# Altium integrated library TI Power Management Step-Down Regulator.IntLib: 531 symbols (part 26 of 32)
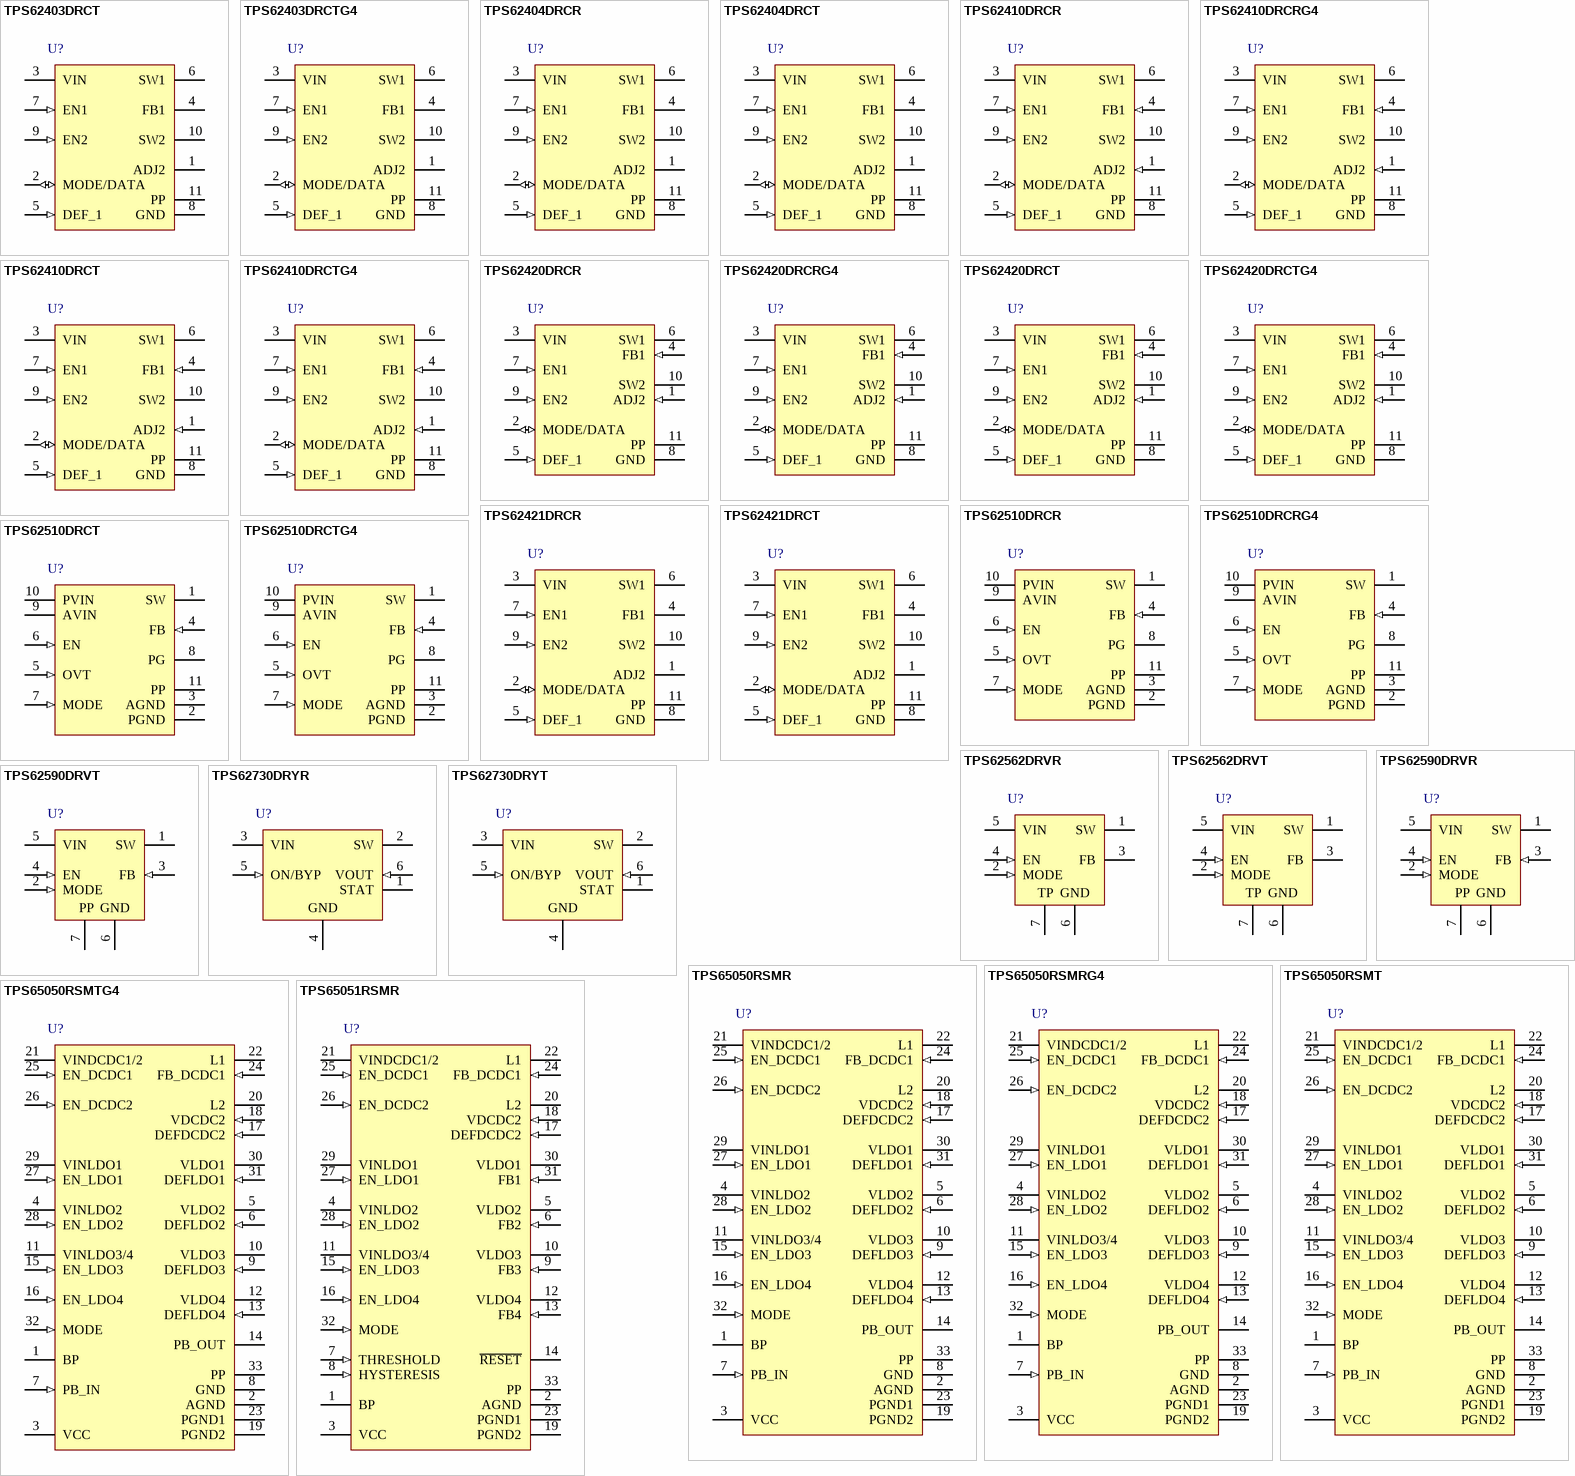
[diagram p43: symbols TPS62403DRCT to TPS65051RSMR]

## TPS62410DRCTG4
designator U?
Buck Step Down Regulator with 2.5 to 6 V Input and 0.6 to 6 V Output, -40 to 85 degC, 10-Pin SON (DRC), Green (RoHS & no Sb/Br); PartNumber: TPS62410DRCTG4; Manufacturer: Texas Instruments; Duty Cycle(Max)(%): 100; Dynamic Voltage Scaling: TRUE; Iout(Max)(A): 0.8; Iq(Typ)(mA): 0.032; Rating: Catalog; Regulated Outputs(#): 2; SubFamily: Step-Down Regulator; Switch Current Limit(Typ)(A): 1; Vin(Max)(V): 6; Vin(Min)(V): 2.5; Vout(Min)(V): 0.6; DatasheetVersion: SLVS737; PackageVersion: revL, Sep-2011; PackageReference: DRC10-2400X1650TP; PackageDescription: 10-Pin Plastic Small Outline No-Lead, 3 x 3 x 1 mm Body, 0.5 mm Pitch, Exposed Pad; Supplier 1: Digi-Key; Supplier Part Number 1: TPS62410DRCTG4-ND; Supplier 2: Newark; Supplier Part Number 2: 34M0196; Supplier 3: Newark; Supplier Part Number 3: 59M7216; Supplier 4: Mouser; Supplier Part Number 4: 595-TPS62410DRCTG4; Eco-Plan: Green (RoHS & no Sb/Br); Iout2(Max)(A): 0.8; Synchronous Rectification: TRUE; Topology: Buck; Vout(Max)(V): 6; Vout2(Max)(V): 6; Vout2(Min)(V): 0.6; Mounting Technology: Surface Mount; ComponentLink1Description: Datasheet; ComponentLink1URL: http://www.ti.com/general/docs/lit/getliterature.tsp?genericPartNumber=TPS62410&fileType=pdf; ComponentLink2Description: URL Link1; ComponentLink2URL: Samples URL:http://www.ti.com/product/tps54611#samples
footprint DRC10-2400X1650TP (SON, 10-Leads, Body 3x3mm, Pitch 0.5mm, Thermal Pad 2.4x1.65mm, TI Recommended)
pins: 1 ADJ2 (in) "Input to adjust output voltage of converter 2. In adjustable version (TPS62410) connect a external resistor divider between VOUT2, this pin and GND to set output voltage between 0.6V and VIN. If EasyScale Interface is used (See Datasheet)", 2 MODE/DATA (io) "This Pin has 2 functions: 1. Operation Mode selection: With low level, Power Save Mode is enabled where the device operates in PFM mode at light loads and enters automatically PWM mode at heavy loads. Pulling this PIN to (See Datasheet)", 3 VIN (power) "Supply voltage, connect to VBAT, 2.5V to 6V", 4 FB1 (in) "Direct feedback voltage sense input of converter 1, connect directly to Vout 1. An internal feed forward capacitor is connected between this pin and the error amplifier. In case of fixed output voltage versions or when the (See Datasheet)", 5 DEF_1 (in) "This pin defines the output voltage of converter 1. The pin acts in TPS62410 as an analog input for output voltage setting via external resistors. In fixed default output voltage versions this pin is a digital input to (See Datasheet)", 6 SW1 (power) "Switch Pin of Converter1. Connected to Inductor 1", 7 EN1 (in) "Enable Input for Converter1, active high", 8 GND (power) "GND for both converters, this pin should be connected with the PowerPAD", 9 EN2 (in) "Enable Input for Converter 2, active high", 10 SW2 (power) "Switch Pin of Converter 2. Connect to Inductor.", 11 PP (power) "Connect to GND"

## TPS62420DRCR
designator U?
Buck Adjustable Regulator with 2.5 to 6 V Input and 0.6 to 6 V Output, -40 to 85 degC, 10-Pin SON (DRC), Green (RoHS & no Sb/Br); PartNumber: TPS62420DRCR; Manufacturer: Texas Instruments; Duty Cycle(Max)(%): 100; Dynamic Voltage Scaling: TRUE; Iout(Max)(A): 0.6; Iout2(Max)(A): 1; Iq(Typ)(mA): 0.032; Rating: Catalog; Regulated Outputs(#): 2; SubFamily: Step-Down Regulator; Vin(Max)(V): 6; Vin(Min)(V): 2.5; DatasheetVersion: SLVS676C; PackageVersion: revL, Sep-2011; PackageReference: DRC10-2400X1650TP; PackageDescription: 10-Pin Plastic Small Outline No-Lead, 3 x 3 x 1 mm Body, 0.5 mm Pitch, Exposed Pad; Supplier 1: Digi-Key; Supplier Part Number 1: 296-25650-2-ND; Supplier 2: Digi-Key; Supplier Part Number 2: 296-25650-1-ND; Supplier 3: Digi-Key; Supplier Part Number 3: 296-25650-6-ND; Supplier 4: Newark; Supplier Part Number 4: 10M0641; Supplier 5: Mouser; Supplier Part Number 5: 595-TPS62420DRCR; Eco-Plan: Green (RoHS & no Sb/Br); Switch Current Limit(Typ)(A): 1; Synchronous Rectification: TRUE; Topology: Buck; Vout(Max)(V): 6; Vout(Min)(V): 0.6; Vout2(Max)(V): 6; Vout2(Min)(V): 0.6; Mounting Technology: Surface Mount; ComponentLink1Description: Datasheet; ComponentLink1URL: http://www.ti.com/general/docs/lit/getliterature.tsp?genericPartNumber=TPS62420&fileType=pdf; ComponentLink2Description: URL Link1; ComponentLink2URL: Samples URL:http://www.ti.com/product/tps62420#samples
footprint DRC10-2400X1650TP (SON, 10-Leads, Body 3x3mm, Pitch 0.5mm, Thermal Pad 2.4x1.65mm, TI Recommended)
pins: 1 ADJ2 (in) "Input to adjust output voltage of converter 2. In adjustable version (TPS62420) connect a external resistor divider between VOUT2, this pin and GND to set output voltage between 0.6V and VIN. If EasyScale Interface is used (See Datasheet)", 2 MODE/DATA (io) "This Pin has 2 functions: 1. Operation Mode selection: With low level, Power Save Mode is enabled where the device operates in PFM mode at light loads and enters automatically PWM mode at heavy loads. Pulling this PIN to (See Datasheet)", 3 VIN (power) "Supply voltage, connect to VBAT, 2.5V to 6V.", 4 FB1 (in) "Direct feedback voltage sense input of converter 1, connect directly to Vout 1. An internal feed forward capacitor is connected between this pin and the error amplifier. In case of fixed output voltage versions or when the (See Datasheet)", 5 DEF_1 (in) "This pin defines the output voltage of converter 1. The pin acts in TPS62420 as an analog input for output voltage setting via external resistors. In fixed default output voltage versions this pin is a digital input to (See Datasheet)", 6 SW1 (power) "Switch Pin of Converter1. Connected to Inductor.", 7 EN1 (in) "Enable Input for Converter1, active high.", 8 GND (power) "GND for both converters, this pin should be connected with the PowerPAD.", 9 EN2 (in) "Enable Input for Converter 2, active high.", 10 SW2 (power) "Switch Pin of Converter 2. Connected to Inductor.", 11 PP (power) "Connect to GND"

## TPS62420DRCRG4
designator U?
Buck Adjustable Regulator with 2.5 to 6 V Input and 0.6 to 6 V Output, -40 to 85 degC, 10-Pin SON (DRC), Green (RoHS & no Sb/Br); PartNumber: TPS62420DRCRG4; Manufacturer: Texas Instruments; Duty Cycle(Max)(%): 100; Dynamic Voltage Scaling: TRUE; Iout(Max)(A): 0.6; Iout2(Max)(A): 1; Iq(Typ)(mA): 0.032; Rating: Catalog; Regulated Outputs(#): 2; SubFamily: Step-Down Regulator; Vin(Max)(V): 6; Vin(Min)(V): 2.5; DatasheetVersion: SLVS676C; PackageVersion: revL, Sep-2011; PackageReference: DRC10-2400X1650TP; PackageDescription: 10-Pin Plastic Small Outline No-Lead, 3 x 3 x 1 mm Body, 0.5 mm Pitch, Exposed Pad; Supplier 1: Digi-Key; Supplier Part Number 1: TPS62420DRCRG4-ND; Supplier 2: Newark; Supplier Part Number 2: 14M2504; Supplier 3: Mouser; Supplier Part Number 3: 595-TPS62420DRCRG4; Eco-Plan: Green (RoHS & no Sb/Br); Switch Current Limit(Typ)(A): 1; Synchronous Rectification: TRUE; Topology: Buck; Vout(Max)(V): 6; Vout(Min)(V): 0.6; Vout2(Max)(V): 6; Vout2(Min)(V): 0.6; Mounting Technology: Surface Mount; ComponentLink1Description: Datasheet; ComponentLink1URL: http://www.ti.com/general/docs/lit/getliterature.tsp?genericPartNumber=TPS62420&fileType=pdf; ComponentLink2Description: URL Link1; ComponentLink2URL: Samples URL:http://www.ti.com/product/tps62420#samples
footprint DRC10-2400X1650TP (SON, 10-Leads, Body 3x3mm, Pitch 0.5mm, Thermal Pad 2.4x1.65mm, TI Recommended)
pins: 1 ADJ2 (in) "Input to adjust output voltage of converter 2. In adjustable version (TPS62420) connect a external resistor divider between VOUT2, this pin and GND to set output voltage between 0.6V and VIN. If EasyScale Interface is used (See Datasheet)", 2 MODE/DATA (io) "This Pin has 2 functions: 1. Operation Mode selection: With low level, Power Save Mode is enabled where the device operates in PFM mode at light loads and enters automatically PWM mode at heavy loads. Pulling this PIN to (See Datasheet)", 3 VIN (power) "Supply voltage, connect to VBAT, 2.5V to 6V.", 4 FB1 (in) "Direct feedback voltage sense input of converter 1, connect directly to Vout 1. An internal feed forward capacitor is connected between this pin and the error amplifier. In case of fixed output voltage versions or when the (See Datasheet)", 5 DEF_1 (in) "This pin defines the output voltage of converter 1. The pin acts in TPS62420 as an analog input for output voltage setting via external resistors. In fixed default output voltage versions this pin is a digital input to (See Datasheet)", 6 SW1 (power) "Switch Pin of Converter1. Connected to Inductor.", 7 EN1 (in) "Enable Input for Converter1, active high.", 8 GND (power) "GND for both converters, this pin should be connected with the PowerPAD.", 9 EN2 (in) "Enable Input for Converter 2, active high.", 10 SW2 (power) "Switch Pin of Converter 2. Connected to Inductor.", 11 PP (power) "Connect to GND"

## TPS62420DRCT
designator U?
Buck Adjustable Regulator with 2.5 to 6 V Input and 0.6 to 6 V Output, -40 to 85 degC, 10-Pin SON (DRC), Green (RoHS & no Sb/Br); PartNumber: TPS62420DRCT; Manufacturer: Texas Instruments; Duty Cycle(Max)(%): 100; Dynamic Voltage Scaling: TRUE; Iout(Max)(A): 0.6; Iout2(Max)(A): 1; Iq(Typ)(mA): 0.032; Rating: Catalog; Regulated Outputs(#): 2; SubFamily: Step-Down Regulator; Vin(Max)(V): 6; Vin(Min)(V): 2.5; DatasheetVersion: SLVS676C; PackageVersion: revL, Sep-2011; PackageReference: DRC10-2400X1650TP; PackageDescription: 10-Pin Plastic Small Outline No-Lead, 3 x 3 x 1 mm Body, 0.5 mm Pitch, Exposed Pad; Supplier 1: Digi-Key; Supplier Part Number 1: 296-20692-2-ND; Supplier 2: Digi-Key; Supplier Part Number 2: 296-20692-1-ND; Supplier 3: Digi-Key; Supplier Part Number 3: 296-20692-6-ND; Supplier 4: Farnell; Supplier Part Number 4: 1755475RL; Supplier 5: Farnell; Supplier Part Number 5: 1755475; Supplier 6: Newark; Supplier Part Number 6: 10M0642; Supplier 7: Mouser; Supplier Part Number 7: 595-TPS62420DRCT; Eco-Plan: Green (RoHS & no Sb/Br); Switch Current Limit(Typ)(A): 1; Synchronous Rectification: TRUE; Topology: Buck; Vout(Max)(V): 6; Vout(Min)(V): 0.6; Vout2(Max)(V): 6; Vout2(Min)(V): 0.6; Mounting Technology: Surface Mount; ComponentLink1Description: Datasheet; ComponentLink1URL: http://www.ti.com/general/docs/lit/getliterature.tsp?genericPartNumber=TPS62420&fileType=pdf; ComponentLink2Description: URL Link1; ComponentLink2URL: Samples URL:http://www.ti.com/product/tps62420#samples
footprint DRC10-2400X1650TP (SON, 10-Leads, Body 3x3mm, Pitch 0.5mm, Thermal Pad 2.4x1.65mm, TI Recommended)
pins: 1 ADJ2 (in) "Input to adjust output voltage of converter 2. In adjustable version (TPS62420) connect a external resistor divider between VOUT2, this pin and GND to set output voltage between 0.6V and VIN. If EasyScale Interface is used (See Datasheet)", 2 MODE/DATA (io) "This Pin has 2 functions: 1. Operation Mode selection: With low level, Power Save Mode is enabled where the device operates in PFM mode at light loads and enters automatically PWM mode at heavy loads. Pulling this PIN to (See Datasheet)", 3 VIN (power) "Supply voltage, connect to VBAT, 2.5V to 6V.", 4 FB1 (in) "Direct feedback voltage sense input of converter 1, connect directly to Vout 1. An internal feed forward capacitor is connected between this pin and the error amplifier. In case of fixed output voltage versions or when the (See Datasheet)", 5 DEF_1 (in) "This pin defines the output voltage of converter 1. The pin acts in TPS62420 as an analog input for output voltage setting via external resistors. In fixed default output voltage versions this pin is a digital input to (See Datasheet)", 6 SW1 (power) "Switch Pin of Converter1. Connected to Inductor.", 7 EN1 (in) "Enable Input for Converter1, active high.", 8 GND (power) "GND for both converters, this pin should be connected with the PowerPAD.", 9 EN2 (in) "Enable Input for Converter 2, active high.", 10 SW2 (power) "Switch Pin of Converter 2. Connected to Inductor.", 11 PP (power) "Connect to GND"

## TPS62420DRCTG4
designator U?
Buck Adjustable Regulator with 2.5 to 6 V Input and 0.6 to 6 V Output, -40 to 85 degC, 10-Pin SON (DRC), Green (RoHS & no Sb/Br); PartNumber: TPS62420DRCTG4; Manufacturer: Texas Instruments; Duty Cycle(Max)(%): 100; Dynamic Voltage Scaling: TRUE; Iout(Max)(A): 0.6; Iout2(Max)(A): 1; Iq(Typ)(mA): 0.032; Rating: Catalog; Regulated Outputs(#): 2; SubFamily: Step-Down Regulator; Vin(Max)(V): 6; Vin(Min)(V): 2.5; DatasheetVersion: SLVS676C; PackageVersion: revL, Sep-2011; PackageReference: DRC10-2400X1650TP; PackageDescription: 10-Pin Plastic Small Outline No-Lead, 3 x 3 x 1 mm Body, 0.5 mm Pitch, Exposed Pad; Supplier 1: Digi-Key; Supplier Part Number 1: TPS62420DRCTG4-ND; Supplier 2: Newark; Supplier Part Number 2: 14M2505; Supplier 3: Mouser; Supplier Part Number 3: 595-TPS62420DRCTG4; Eco-Plan: Green (RoHS & no Sb/Br); Switch Current Limit(Typ)(A): 1; Synchronous Rectification: TRUE; Topology: Buck; Vout(Max)(V): 6; Vout(Min)(V): 0.6; Vout2(Max)(V): 6; Vout2(Min)(V): 0.6; Mounting Technology: Surface Mount; ComponentLink1Description: Datasheet; ComponentLink1URL: http://www.ti.com/general/docs/lit/getliterature.tsp?genericPartNumber=TPS62420&fileType=pdf; ComponentLink2Description: URL Link1; ComponentLink2URL: Samples URL:http://www.ti.com/product/tps54611#samples
footprint DRC10-2400X1650TP (SON, 10-Leads, Body 3x3mm, Pitch 0.5mm, Thermal Pad 2.4x1.65mm, TI Recommended)
pins: 1 ADJ2 (in) "Input to adjust output voltage of converter 2. In adjustable version (TPS62420) connect a external resistor divider between VOUT2, this pin and GND to set output voltage between 0.6V and VIN. If EasyScale Interface is used (See Datasheet)", 2 MODE/DATA (io) "This Pin has 2 functions: 1. Operation Mode selection: With low level, Power Save Mode is enabled where the device operates in PFM mode at light loads and enters automatically PWM mode at heavy loads. Pulling this PIN to (See Datasheet)", 3 VIN (power) "Supply voltage, connect to VBAT, 2.5V to 6V.", 4 FB1 (in) "Direct feedback voltage sense input of converter 1, connect directly to Vout 1. An internal feed forward capacitor is connected between this pin and the error amplifier. In case of fixed output voltage versions or when the (See Datasheet)", 5 DEF_1 (in) "This pin defines the output voltage of converter 1. The pin acts in TPS62420 as an analog input for output voltage setting via external resistors. In fixed default output voltage versions this pin is a digital input to (See Datasheet)", 6 SW1 (power) "Switch Pin of Converter1. Connected to Inductor.", 7 EN1 (in) "Enable Input for Converter1, active high.", 8 GND (power) "GND for both converters, this pin should be connected with the PowerPAD.", 9 EN2 (in) "Enable Input for Converter 2, active high.", 10 SW2 (power) "Switch Pin of Converter 2. Connected to Inductor.", 11 PP (power) "Connect to GND"

## TPS62421DRCR
designator U?
Buck Step Down Regulator with 2.5 to 6 V Input and 1.2 to 1.8 V Output, -40 to 85 degC, 10-Pin SON (DRC), Green (RoHS & no Sb/Br); PartNumber: TPS62421DRCR; Manufacturer: Texas Instruments; Duty Cycle(Max)(%): 100; Dynamic Voltage Scaling: TRUE; Iout(Max)(A): 0.6; Iout2(Max)(A): 1; Iq(Typ)(mA): 0.032; Rating: Catalog; Regulated Outputs(#): 2; SubFamily: Step-Down Regulator; Vin(Max)(V): 6; Vin(Min)(V): 2.5; Vout(Max)(V): 1.8; Vout(Min)(V): 1.2; DatasheetVersion: SLVS676C; PackageVersion: revL, Sep-2011; PackageReference: DRC10-2400X1650TP; PackageDescription: 10-Pin Plastic Small Outline No-Lead, 3 x 3 x 1 mm Body, 0.5 mm Pitch, Exposed Pad; Supplier 1: Digi-Key; Supplier Part Number 1: 296-27748-2-ND; Supplier 2: Digi-Key; Supplier Part Number 2: 296-27748-1-ND; Supplier 3: Digi-Key; Supplier Part Number 3: 296-27748-6-ND; Supplier 4: Newark; Supplier Part Number 4: 01T0853; Supplier 5: Mouser; Supplier Part Number 5: 595-TPS62421DRCR; Eco-Plan: Green (RoHS & no Sb/Br); Switch Current Limit(Typ)(A): 1; Synchronous Rectification: TRUE; Topology: Buck; Vout2(Max)(V): 1.8; Vout2(Min)(V): 1.8; Mounting Technology: Surface Mount; ComponentLink1Description: Datasheet; ComponentLink1URL: http://www.ti.com/general/docs/lit/getliterature.tsp?genericPartNumber=TPS62421&fileType=pdf; ComponentLink2Description: URL Link1; ComponentLink2URL: Samples URL:http://www.ti.com/product/tps62421#samples
footprint DRC10-2400X1650TP (SON, 10-Leads, Body 3x3mm, Pitch 0.5mm, Thermal Pad 2.4x1.65mm, TI Recommended)
pins: 1 ADJ2 "Input to adjust output voltage of converter 2. In adjustable version (TPS62420) connect a external resistor divider between VOUT2, this pin and GND to set output voltage between 0.6V and VIN. If EasyScale Interface is used (See Datasheet)", 2 MODE/DATA (io) "This Pin has 2 functions: 1. Operation Mode selection: With low level, Power Save Mode is enabled where the device operates in PFM mode at light loads and enters automatically PWM mode at heavy loads. Pulling this PIN to (See Datasheet)", 3 VIN (power) "Supply voltage, connect to VBAT, 2.5V to 6V", 4 FB1 "Direct feedback voltage sense input of converter 1, connect directly to Vout 1. An internal feed forward capacitor is connected between this pin and the error amplifier. In case of fixed output voltage versions or when the (See Datasheet)", 5 DEF_1 (in) "This pin defines the output voltage of converter 1. The pin acts in TPS62420 as an analog input for output voltage setting via external resistors. In fixed default output voltage versions this pin is a digital input to (See Datasheet)", 6 SW1 (power) "Switch Pin of Converter1. Connected to Inductor", 7 EN1 (in) "Enable Input for Converter1, active high", 8 GND (power) "GND for both converters, this pin should be connected with the PowerPAD", 9 EN2 (in) "Enable Input for Converter 2, active high", 10 SW2 (power) "Switch Pin of Converter 2. Connected to Inductor.", 11 PP (power) "Connect to GND"

## TPS62421DRCT
designator U?
Buck Step Down Regulator with 2.5 to 6 V Input and 1.2 to 1.8 V Output, -40 to 85 degC, 10-Pin SON (DRC), Green (RoHS & no Sb/Br); PartNumber: TPS62421DRCT; Manufacturer: Texas Instruments; Duty Cycle(Max)(%): 100; Dynamic Voltage Scaling: TRUE; Iout(Max)(A): 0.6; Iout2(Max)(A): 1; Iq(Typ)(mA): 0.032; Rating: Catalog; Regulated Outputs(#): 2; SubFamily: Step-Down Regulator; Vin(Max)(V): 6; Vin(Min)(V): 2.5; Vout(Max)(V): 1.8; Vout(Min)(V): 1.2; DatasheetVersion: SLVS676C; PackageVersion: revL, Sep-2011; PackageReference: DRC10-2400X1650TP; PackageDescription: 10-Pin Plastic Small Outline No-Lead, 3 x 3 x 1 mm Body, 0.5 mm Pitch, Exposed Pad; Supplier 1: Digi-Key; Supplier Part Number 1: TPS62421DRCT-ND; Supplier 2: Newark; Supplier Part Number 2: 01T0854; Supplier 3: Mouser; Supplier Part Number 3: 595-TPS62421DRCT; Eco-Plan: Green (RoHS & no Sb/Br); Switch Current Limit(Typ)(A): 1; Synchronous Rectification: TRUE; Topology: Buck; Vout2(Max)(V): 1.8; Vout2(Min)(V): 1.8; Mounting Technology: Surface Mount; ComponentLink1Description: Datasheet; ComponentLink1URL: http://www.ti.com/general/docs/lit/getliterature.tsp?genericPartNumber=TPS62421&fileType=pdf; ComponentLink2Description: URL Link1; ComponentLink2URL: Samples URL:http://www.ti.com/product/tps54611#samples
footprint DRC10-2400X1650TP (SON, 10-Leads, Body 3x3mm, Pitch 0.5mm, Thermal Pad 2.4x1.65mm, TI Recommended)
pins: 1 ADJ2 "Input to adjust output voltage of converter 2. In adjustable version (TPS62420) connect a external resistor divider between VOUT2, this pin and GND to set output voltage between 0.6V and VIN. If EasyScale Interface is used (See Datasheet)", 2 MODE/DATA (io) "This Pin has 2 functions: 1. Operation Mode selection: With low level, Power Save Mode is enabled where the device operates in PFM mode at light loads and enters automatically PWM mode at heavy loads. Pulling this PIN to (See Datasheet)", 3 VIN (power) "Supply voltage, connect to VBAT, 2.5V to 6V", 4 FB1 "Direct feedback voltage sense input of converter 1, connect directly to Vout 1. An internal feed forward capacitor is connected between this pin and the error amplifier. In case of fixed output voltage versions or when the (See Datasheet)", 5 DEF_1 (in) "This pin defines the output voltage of converter 1. The pin acts in TPS62420 as an analog input for output voltage setting via external resistors. In fixed default output voltage versions this pin is a digital input to (See Datasheet)", 6 SW1 (power) "Switch Pin of Converter1. Connected to Inductor", 7 EN1 (in) "Enable Input for Converter1, active high", 8 GND (power) "GND for both converters, this pin should be connected with the PowerPAD", 9 EN2 (in) "Enable Input for Converter 2, active high", 10 SW2 (power) "Switch Pin of Converter 2. Connected to Inductor.", 11 PP (power) "Connect to GND"

## TPS62510DRCR
designator U?
Buck Adjustable Regulator with 1.8 to 3.8 V Input and 0.6 to 3.8 V Output, -40 to 85 degC, 10-Pin SON (DRC), Green (RoHS & no Sb/Br); PartNumber: TPS62510DRCR; Manufacturer: Texas Instruments; Duty Cycle(Max)(%): 100; Iout(Max)(A): 1.5; Iq(Typ)(mA): 0.018; Rating: Catalog; Regulated Outputs(#): 1; SubFamily: Step-Down Regulator; Switch Current Limit(Typ)(A): 2; Synchronous Rectification: TRUE; Vin(Max)(V): 3.8; Vin(Min)(V): 1.8; Vout(Min)(V): 0.6; DatasheetVersion: SLVS651A; PackageVersion: revL, Sep-2011; PackageReference: DRC10-2400X1650TP; PackageDescription: 10-Pin Plastic Small Outline No-Lead, 3 x 3 x 1 mm Body, 0.5 mm Pitch, Exposed Pad; Supplier 1: Digi-Key; Supplier Part Number 1: 296-19793-2-ND; Supplier 2: Digi-Key; Supplier Part Number 2: 296-19793-1-ND; Supplier 3: Digi-Key; Supplier Part Number 3: 296-19793-6-ND; Supplier 4: Farnell; Supplier Part Number 4: 1576950; Supplier 5: Newark; Supplier Part Number 5: 99K4417; Supplier 6: Mouser; Supplier Part Number 6: 595-TPS62510DRCR; Eco-Plan: Green (RoHS & no Sb/Br); Topology: Buck; Vout(Max)(V): 3.8; Mounting Technology: Surface Mount; ComponentLink1Description: Datasheet; ComponentLink1URL: http://www.ti.com/general/docs/lit/getliterature.tsp?genericPartNumber=TPS62510&fileType=pdf; ComponentLink2Description: URL Link1; ComponentLink2URL: Samples URL:http://www.ti.com/product/tps62510#samples
footprint DRC10-2400X1650TP (SON, 10-Leads, Body 3x3mm, Pitch 0.5mm, Thermal Pad 2.4x1.65mm, TI Recommended)
pins: 1 SW (power) "Switch pin of the converter. The inductor is connected here.", 2 PGND (power) "Power ground for the converter", 3 AGND (power) "Analog ground connection", 4 FB (in) "Feedback voltage sense input. Connect directly to VO or to the midpoint of an external voltage divider for the adjustable version.", 5 OVT (in) "Output Voltage Tracking input. The signal applied to this pin is used as reference voltage overiding the internal reference voltage when it is below the internal 0.6-V reference. If this feature is not used, the OVT pin is (See Datasheet)", 6 EN (in) "Enable pin. A logic high enables the regulator, a logic low disables the regulator. This pin needs to be terminated and not left floating.", 7 MODE (in) "This pin is used to force fixed frequency PWM operation or to synchronize the device to an external clock signal. With MODE = high, the device is forced into 1.5-MHz fixed frequency PWM operation. With MODE = low, the device (See Datasheet)", 8 PG (hiz) "Power Good indication. This is a open drain output that is low when the device is disabled or the output voltage drops 10% below target.", 9 AVIN (power) "Power supply for control circuitry. Must be connected to the same voltage supply as PVIN through RC filter.", 10 PVIN (power) "Input voltage for the power stage. VIN must be connected to the same voltage supply as AVIN.", 11 PP (power) "Connect the PowerPAD to analog ground AGND."

## TPS62510DRCRG4
designator U?
Buck Adjustable Regulator with 1.8 to 3.8 V Input and 0.6 to 3.8 V Output, -40 to 85 degC, 10-Pin SON (DRC), Green (RoHS & no Sb/Br); PartNumber: TPS62510DRCRG4; Manufacturer: Texas Instruments; Duty Cycle(Max)(%): 100; Iout(Max)(A): 1.5; Iq(Typ)(mA): 0.018; Rating: Catalog; Regulated Outputs(#): 1; SubFamily: Step-Down Regulator; Switch Current Limit(Typ)(A): 2; Synchronous Rectification: TRUE; Vin(Max)(V): 3.8; Vin(Min)(V): 1.8; Vout(Min)(V): 0.6; DatasheetVersion: SLVS651A; PackageVersion: revL, Sep-2011; PackageReference: DRC10-2400X1650TP; PackageDescription: 10-Pin Plastic Small Outline No-Lead, 3 x 3 x 1 mm Body, 0.5 mm Pitch, Exposed Pad; Supplier 1: Digi-Key; Supplier Part Number 1: TPS62510DRCRG4-ND; Supplier 2: Newark; Supplier Part Number 2: 02M4317; Supplier 3: Mouser; Supplier Part Number 3: 595-TPS62510DRCRG4; Eco-Plan: Green (RoHS & no Sb/Br); Topology: Buck; Vout(Max)(V): 3.8; Mounting Technology: Surface Mount; ComponentLink1Description: Datasheet; ComponentLink1URL: http://www.ti.com/general/docs/lit/getliterature.tsp?genericPartNumber=TPS62510&fileType=pdf; ComponentLink2Description: URL Link1; ComponentLink2URL: Samples URL:http://www.ti.com/product/tps62510#samples
footprint DRC10-2400X1650TP (SON, 10-Leads, Body 3x3mm, Pitch 0.5mm, Thermal Pad 2.4x1.65mm, TI Recommended)
pins: 1 SW (power) "Switch pin of the converter. The inductor is connected here.", 2 PGND (power) "Power ground for the converter", 3 AGND (power) "Analog ground connection", 4 FB (in) "Feedback voltage sense input. Connect directly to VO or to the midpoint of an external voltage divider for the adjustable version.", 5 OVT (in) "Output Voltage Tracking input. The signal applied to this pin is used as reference voltage overiding the internal reference voltage when it is below the internal 0.6-V reference. If this feature is not used, the OVT pin is (See Datasheet)", 6 EN (in) "Enable pin. A logic high enables the regulator, a logic low disables the regulator. This pin needs to be terminated and not left floating.", 7 MODE (in) "This pin is used to force fixed frequency PWM operation or to synchronize the device to an external clock signal. With MODE = high, the device is forced into 1.5-MHz fixed frequency PWM operation. With MODE = low, the device (See Datasheet)", 8 PG (hiz) "Power Good indication. This is a open drain output that is low when the device is disabled or the output voltage drops 10% below target.", 9 AVIN (power) "Power supply for control circuitry. Must be connected to the same voltage supply as PVIN through RC filter.", 10 PVIN (power) "Input voltage for the power stage. VIN must be connected to the same voltage supply as AVIN.", 11 PP (power) "Connect the PowerPAD to analog ground AGND."

## TPS62510DRCT
designator U?
Buck Adjustable Regulator with 1.8 to 3.8 V Input and 0.6 to 3.8 V Output, -40 to 85 degC, 10-Pin SON (DRC), Green (RoHS & no Sb/Br); PartNumber: TPS62510DRCT; Manufacturer: Texas Instruments; Duty Cycle(Max)(%): 100; Iout(Max)(A): 1.5; Iq(Typ)(mA): 0.018; Rating: Catalog; Regulated Outputs(#): 1; SubFamily: Step-Down Regulator; Switch Current Limit(Typ)(A): 2; Synchronous Rectification: TRUE; Vin(Max)(V): 3.8; Vin(Min)(V): 1.8; Vout(Min)(V): 0.6; DatasheetVersion: SLVS651A; PackageVersion: revL, Sep-2011; PackageReference: DRC10-2400X1650TP; PackageDescription: 10-Pin Plastic Small Outline No-Lead, 3 x 3 x 1 mm Body, 0.5 mm Pitch, Exposed Pad; Supplier 1: Digi-Key; Supplier Part Number 1: 296-32512-2-ND; Supplier 2: Digi-Key; Supplier Part Number 2: 296-32512-1-ND; Supplier 3: Digi-Key; Supplier Part Number 3: 296-32512-6-ND; Supplier 4: Farnell; Supplier Part Number 4: 1755476; Supplier 5: Newark; Supplier Part Number 5: 99K4418; Supplier 6: Mouser; Supplier Part Number 6: 595-TPS62510DRCT; Eco-Plan: Green (RoHS & no Sb/Br); Topology: Buck; Vout(Max)(V): 3.8; Mounting Technology: Surface Mount; ComponentLink1Description: Datasheet; ComponentLink1URL: http://www.ti.com/general/docs/lit/getliterature.tsp?genericPartNumber=TPS62510&fileType=pdf; ComponentLink2Description: URL Link1; ComponentLink2URL: Samples URL:http://www.ti.com/product/tps62510#samples
footprint DRC10-2400X1650TP (SON, 10-Leads, Body 3x3mm, Pitch 0.5mm, Thermal Pad 2.4x1.65mm, TI Recommended)
pins: 1 SW (power) "Switch pin of the converter. The inductor is connected here.", 2 PGND (power) "Power ground for the converter", 3 AGND (power) "Analog ground connection", 4 FB (in) "Feedback voltage sense input. Connect directly to VO or to the midpoint of an external voltage divider for the adjustable version.", 5 OVT (in) "Output Voltage Tracking input. The signal applied to this pin is used as reference voltage overiding the internal reference voltage when it is below the internal 0.6-V reference. If this feature is not used, the OVT pin is (See Datasheet)", 6 EN (in) "Enable pin. A logic high enables the regulator, a logic low disables the regulator. This pin needs to be terminated and not left floating.", 7 MODE (in) "This pin is used to force fixed frequency PWM operation or to synchronize the device to an external clock signal. With MODE = high, the device is forced into 1.5-MHz fixed frequency PWM operation. With MODE = low, the device (See Datasheet)", 8 PG (hiz) "Power Good indication. This is a open drain output that is low when the device is disabled or the output voltage drops 10% below target.", 9 AVIN (power) "Power supply for control circuitry. Must be connected to the same voltage supply as PVIN through RC filter.", 10 PVIN (power) "Input voltage for the power stage. VIN must be connected to the same voltage supply as AVIN.", 11 PP (power) "Connect the PowerPAD to analog ground AGND."

## TPS62510DRCTG4
designator U?
Buck Adjustable Regulator with 1.8 to 3.8 V Input and 0.6 to 3.8 V Output, -40 to 85 degC, 10-Pin SON (DRC), Green (RoHS & no Sb/Br); PartNumber: TPS62510DRCTG4; Manufacturer: Texas Instruments; Duty Cycle(Max)(%): 100; Iout(Max)(A): 1.5; Iq(Typ)(mA): 0.018; Rating: Catalog; Regulated Outputs(#): 1; SubFamily: Step-Down Regulator; Switch Current Limit(Typ)(A): 2; Synchronous Rectification: TRUE; Vin(Max)(V): 3.8; Vin(Min)(V): 1.8; Vout(Min)(V): 0.6; DatasheetVersion: SLVS651A; PackageVersion: revL, Sep-2011; PackageReference: DRC10-2400X1650TP; PackageDescription: 10-Pin Plastic Small Outline No-Lead, 3 x 3 x 1 mm Body, 0.5 mm Pitch, Exposed Pad; Supplier 1: Digi-Key; Supplier Part Number 1: TPS62510DRCTG4-ND; Supplier 2: Newark; Supplier Part Number 2: 02M4318; Supplier 3: Mouser; Supplier Part Number 3: 595-TPS62510DRCTG4; Eco-Plan: Green (RoHS & no Sb/Br); Topology: Buck; Vout(Max)(V): 3.8; Mounting Technology: Surface Mount; ComponentLink1Description: Datasheet; ComponentLink1URL: http://www.ti.com/general/docs/lit/getliterature.tsp?genericPartNumber=TPS62510&fileType=pdf; ComponentLink2Description: URL Link1; ComponentLink2URL: Samples URL:http://www.ti.com/product/tps54611#samples
footprint DRC10-2400X1650TP (SON, 10-Leads, Body 3x3mm, Pitch 0.5mm, Thermal Pad 2.4x1.65mm, TI Recommended)
pins: 1 SW (power) "Switch pin of the converter. The inductor is connected here.", 2 PGND (power) "Power ground for the converter", 3 AGND (power) "Analog ground connection", 4 FB (in) "Feedback voltage sense input. Connect directly to VO or to the midpoint of an external voltage divider for the adjustable version.", 5 OVT (in) "Output Voltage Tracking input. The signal applied to this pin is used as reference voltage overiding the internal reference voltage when it is below the internal 0.6-V reference. If this feature is not used, the OVT pin is (See Datasheet)", 6 EN (in) "Enable pin. A logic high enables the regulator, a logic low disables the regulator. This pin needs to be terminated and not left floating.", 7 MODE (in) "This pin is used to force fixed frequency PWM operation or to synchronize the device to an external clock signal. With MODE = high, the device is forced into 1.5-MHz fixed frequency PWM operation. With MODE = low, the device (See Datasheet)", 8 PG (hiz) "Power Good indication. This is a open drain output that is low when the device is disabled or the output voltage drops 10% below target.", 9 AVIN (power) "Power supply for control circuitry. Must be connected to the same voltage supply as PVIN through RC filter.", 10 PVIN (power) "Input voltage for the power stage. VIN must be connected to the same voltage supply as AVIN.", 11 PP (power) "Connect the PowerPAD to analog ground AGND."

## TPS62562DRVR
designator U?
Buck Step Down Regulator with 2.5 to 5.5 V Input and 1.8 V Output, -40 to 85 degC, 6-Pin SON (DRV), Green (RoHS & no Sb/Br); PartNumber: TPS62562DRVR; Manufacturer: Texas Instruments; Duty Cycle(Max)(%): 100; Iout(Max)(A): 0.6; Iq(Typ)(mA): 0.015; Preset Vout(V): 1.8; Rating: Catalog; Regulated Outputs(#): 1; SubFamily: Step-Down Regulator; Synchronous Rectification: TRUE; Vin(Max)(V): 5.5; Vin(Min)(V): 2.5; DatasheetVersion: SLVS815C; PackageVersion: revE, Oct-2010; PackageReference: DRV6-1600X1000TP; PackageDescription: 6-Pin Plastic Small Outline No-Lead, 2 x 2 x 0.8 mm Body, 0.65 mm Pitch, Exposed Pad; Supplier 1: Digi-Key; Supplier Part Number 1: 296-24078-2-ND; Supplier 2: Digi-Key; Supplier Part Number 2: 296-24078-1-ND; Supplier 3: Digi-Key; Supplier Part Number 3: 296-24078-6-ND; Supplier 4: Mouser; Supplier Part Number 4: 595-TPS62562DRVR; Eco-Plan: Green (RoHS & no Sb/Br); Switch Current Limit(Typ)(A): 1; Topology: Buck; Vout(Max)(V): 1.8; Vout(Min)(V): 1.8; Mounting Technology: Surface Mount; ComponentLink1Description: Datasheet; ComponentLink1URL: http://www.ti.com/general/docs/lit/getliterature.tsp?genericPartNumber=TPS62562&fileType=pdf; ComponentLink2Description: URL Link1; ComponentLink2URL: Samples URL:http://www.ti.com/product/tps62562#samples
footprint DRV6-1600X1000TP (SON, 6-Leads, Body 2x2mm, Pitch 0.65mm, Thermal Pad 1.6x1mm, TI Recommended)
pins: 1 SW (power) "This is the switch terminal and is connected to the internal MOSFET switches. Connect the external inductor between this terminal and the output capacitor.", 2 MODE (in) "This terminal is only available as an QFN package option. MODE terminal = high forces the device to operate in the fixed-frequency PWM mode. MODE terminal = low enables the power-save mode with automatic transition from PFM (See Datasheet)", 3 FB "Feedback terminal for the internal regulation loop. Connect the external resistor divider to this terminal. In the fixed-output-voltage option, connect this terminal directly to the output capacitor.", 4 EN (in) "This is the enable terminal of the device. Pulling this terminal to low forces the device into shutdown mode. Pulling this terminal to high enables the device. This terminal must be terminated.", 5 VIN (power) "VIN power-supply terminal", 6 GND (power) "GND supply terminal", 7 TP (power) "Exposed thermal pad."

## TPS62562DRVT
designator U?
Buck Step Down Regulator with 2.5 to 5.5 V Input and 1.8 V Output, -40 to 85 degC, 6-Pin SON (DRV), Green (RoHS & no Sb/Br); PartNumber: TPS62562DRVT; Manufacturer: Texas Instruments; Duty Cycle(Max)(%): 100; Iout(Max)(A): 0.6; Iq(Typ)(mA): 0.015; Preset Vout(V): 1.8; Rating: Catalog; Regulated Outputs(#): 1; SubFamily: Step-Down Regulator; Synchronous Rectification: TRUE; Vin(Max)(V): 5.5; Vin(Min)(V): 2.5; DatasheetVersion: SLVS815C; PackageVersion: revE, Oct-2010; PackageReference: DRV6-1600X1000TP; PackageDescription: 6-Pin Plastic Small Outline No-Lead, 2 x 2 x 0.8 mm Body, 0.65 mm Pitch, Exposed Pad; Supplier 1: Digi-Key; Supplier Part Number 1: TPS62562DRVT-ND; Supplier 2: Mouser; Supplier Part Number 2: 595-TPS62562DRVT; Eco-Plan: Green (RoHS & no Sb/Br); Switch Current Limit(Typ)(A): 1; Topology: Buck; Vout(Max)(V): 1.8; Vout(Min)(V): 1.8; Mounting Technology: Surface Mount; ComponentLink1Description: Datasheet; ComponentLink1URL: http://www.ti.com/general/docs/lit/getliterature.tsp?genericPartNumber=TPS62562&fileType=pdf; ComponentLink2Description: URL Link1; ComponentLink2URL: Samples URL:http://www.ti.com/product/tps54611#samples
footprint DRV6-1600X1000TP (SON, 6-Leads, Body 2x2mm, Pitch 0.65mm, Thermal Pad 1.6x1mm, TI Recommended)
pins: 1 SW (power) "This is the switch terminal and is connected to the internal MOSFET switches. Connect the external inductor between this terminal and the output capacitor.", 2 MODE (in) "This terminal is only available as an QFN package option. MODE terminal = high forces the device to operate in the fixed-frequency PWM mode. MODE terminal = low enables the power-save mode with automatic transition from PFM (See Datasheet)", 3 FB "Feedback terminal for the internal regulation loop. Connect the external resistor divider to this terminal. In the fixed-output-voltage option, connect this terminal directly to the output capacitor.", 4 EN (in) "This is the enable terminal of the device. Pulling this terminal to low forces the device into shutdown mode. Pulling this terminal to high enables the device. This terminal must be terminated.", 5 VIN (power) "VIN power-supply terminal", 6 GND (power) "GND supply terminal", 7 TP (power) "Exposed thermal pad."

## TPS62590DRVR
designator U?
Buck Step Down Regulator with 2.5 to 5.5 V Input and 0.75 to 5.5 V Output, -40 to 85 degC, 6-Pin SON (DRV), Green (RoHS & no Sb/Br); PartNumber: TPS62590DRVR; Manufacturer: Texas Instruments; Duty Cycle(Max)(%): 100; Iout(Max)(A): 1; Iq(Typ)(mA): 0.015; Rating: Catalog; SubFamily: Step-Down Regulator; Switch Current Limit(Typ)(A): 1.4; Synchronous Rectification: TRUE; Vin(Max)(V): 5.5; Vin(Min)(V): 2.5; Vout(Min)(V): 0.75; DatasheetVersion: SLVS897B; PackageVersion: revE, Oct-2010; PackageReference: DRV6-1600X1000TP; PackageDescription: 6-Pin Plastic Small Outline No-Lead, 2 x 2 x 0.8 mm Body, 0.65 mm Pitch, Exposed Pad; Supplier 1: Digi-Key; Supplier Part Number 1: TPS62590DRVR-ND; Supplier 2: Newark; Supplier Part Number 2: 09R6680; Supplier 3: Mouser; Supplier Part Number 3: 595-TPS62590DRVR; Eco-Plan: Green (RoHS & no Sb/Br); Regulated Outputs(#): 1; Topology: Buck; Vout(Max)(V): 5.5; Mounting Technology: Surface Mount; ComponentLink1Description: Datasheet; ComponentLink1URL: http://www.ti.com/general/docs/lit/getliterature.tsp?genericPartNumber=TPS62590&fileType=pdf; ComponentLink2Description: URL Link1; ComponentLink2URL: Samples URL:http://www.ti.com/product/tps62590#samples
footprint DRV6-1600X1000TP (SON, 6-Leads, Body 2x2mm, Pitch 0.65mm, Thermal Pad 1.6x1mm, TI Recommended)
pins: 1 SW (power) "This is the switch pin and is connected to the internal MOSFET switches. Connect the external inductor between this terminal and the output capacitor.", 2 MODE (in) "MODE pin = high forces the device to operate in fixed-frequency PWM mode. Mode pin = low enables the Power Save Mode with automatic transition from PFM mode to fixed-frequency PWM mode.", 3 FB (in) "Feedback Pin for the internal regulation loop. Connect the external resistor divider to this pin. In case of fixed output voltage option, connect this pin directly to the output capacitor", 4 EN (in) "This is the enable pin of the device. Pulling this pin to low forces the device into shutdown mode.Pulling this pin to high enables the device. This pin must be terminated.", 5 VIN (power) "VIN power supply pin.", 6 GND (power) "GND supply pin", 7 PP (power) "Must be soldered to achieve appropriate power dissipation. Should be connected to GND."

## TPS62590DRVT
designator U?
Buck Step Down Regulator with 2.5 to 5.5 V Input and 0.75 to 5.5 V Output, -40 to 85 degC, 6-Pin SON (DRV), Green (RoHS & no Sb/Br); PartNumber: TPS62590DRVT; Manufacturer: Texas Instruments; Duty Cycle(Max)(%): 100; Iout(Max)(A): 1; Iq(Typ)(mA): 0.015; Rating: Catalog; SubFamily: Step-Down Regulator; Switch Current Limit(Typ)(A): 1.4; Synchronous Rectification: TRUE; Vin(Max)(V): 5.5; Vin(Min)(V): 2.5; Vout(Min)(V): 0.75; DatasheetVersion: SLVS897B; PackageVersion: revE, Oct-2010; PackageReference: DRV6-1600X1000TP; PackageDescription: 6-Pin Plastic Small Outline No-Lead, 2 x 2 x 0.8 mm Body, 0.65 mm Pitch, Exposed Pad; Supplier 1: Digi-Key; Supplier Part Number 1: 296-24173-2-ND; Supplier 2: Digi-Key; Supplier Part Number 2: 296-24173-1-ND; Supplier 3: Digi-Key; Supplier Part Number 3: 296-24173-6-ND; Supplier 4: Newark; Supplier Part Number 4: 09R6681; Supplier 5: Mouser; Supplier Part Number 5: 595-TPS62590DRVT; Eco-Plan: Green (RoHS & no Sb/Br); Regulated Outputs(#): 1; Topology: Buck; Vout(Max)(V): 5.5; Mounting Technology: Surface Mount; ComponentLink1Description: Datasheet; ComponentLink1URL: http://www.ti.com/general/docs/lit/getliterature.tsp?genericPartNumber=TPS62590&fileType=pdf; ComponentLink2Description: URL Link1; ComponentLink2URL: Samples URL:http://www.ti.com/product/tps54611#samples
footprint DRV6-1600X1000TP (SON, 6-Leads, Body 2x2mm, Pitch 0.65mm, Thermal Pad 1.6x1mm, TI Recommended)
pins: 1 SW (power) "This is the switch pin and is connected to the internal MOSFET switches. Connect the external inductor between this terminal and the output capacitor.", 2 MODE (in) "MODE pin = high forces the device to operate in fixed-frequency PWM mode. Mode pin = low enables the Power Save Mode with automatic transition from PFM mode to fixed-frequency PWM mode.", 3 FB (in) "Feedback Pin for the internal regulation loop. Connect the external resistor divider to this pin. In case of fixed output voltage option, connect this pin directly to the output capacitor", 4 EN (in) "This is the enable pin of the device. Pulling this pin to low forces the device into shutdown mode.Pulling this pin to high enables the device. This pin must be terminated.", 5 VIN (power) "VIN power supply pin.", 6 GND (power) "GND supply pin", 7 PP (power) "Must be soldered to achieve appropriate power dissipation. Should be connected to GND."

## TPS62730DRYR
designator U?
Buck Step Down Regulator with 1.9 to 3.9 V Input and 2.1 V Output, -40 to 85 degC, 6-Pin SON (DRY), Green (RoHS & no Sb/Br); PartNumber: TPS62730DRYR; Manufacturer: Texas Instruments; Duty Cycle(Max)(%): 100; Iout(Max)(A): 0.1; Rating: Catalog; Regulated Outputs(#): 1; SubFamily: Step-Down Regulator; Synchronous Rectification: TRUE; Vin(Max)(V): 3.9; Vin(Min)(V): 1.9; Vout(Max)(V): 2.1; DatasheetVersion: SLVSAC3A; PackageVersion: revF, Dec-2011; PackageReference: DRY6; PackageDescription: 6-Pin Plastic Small Outline No-Lead, 1 x 1.45 x 0.6 mm Body, 0.5 mm Pitch; Supplier 1: Digi-Key; Supplier Part Number 1: TPS62730DRYR-ND; Supplier 2: Newark; Supplier Part Number 2: 52T8813; Supplier 3: Mouser; Supplier Part Number 3: 595-TPS62730DRYR; Eco-Plan: Green (RoHS & no Sb/Br); Topology: Buck; Vout(Min)(V): 2.1; Mounting Technology: Surface Mount; ComponentLink1Description: Datasheet; ComponentLink1URL: http://www.ti.com/general/docs/lit/getliterature.tsp?genericPartNumber=TPS62730&fileType=pdf; ComponentLink2Description: URL Link1; ComponentLink2URL: Samples URL:http://www.ti.com/product/tps62730#samples
footprint DRY6 (PSON, 6-Leads, Body 1x1.45mm, Pitch 0.5mm, TI Recommended)
pins: 1 STAT (hiz) "This is the open drain status output with active low level. An internal comparator drives this output. The pin is high impedance with ON/BYP = low. With ON/BYP set to high the device and the internal VOUT comparator becomes (See Datasheet)", 2 SW (power) "This is the switch pin and is connected to the internal MOSFET switches. Connect the inductor to this terminal.", 3 VIN (power) "VIN power supply pin. Connect this pin close to the VIN terminal of the input capacitor. A ceramic capacitor of 2.2uF is required.", 4 GND (power) "GND supply pin. Connect this pin close to the GND terminal of the input and output capacitor.", 5 ON/BYP (in) "This is the mode selection pin of the device. Pulling this pin to low forces the device into ultra low power bypass mode. The output of the DC/DC converter is connected to VIN via an internal bypass switch.Pulling this pin (See Datasheet)", 6 VOUT (in) "Feedback Pin for the internal feedback divider network and regulation loop. The internal bypass switch is connected between this pin and VIN. Connect this pin directly to the output capacitor with short trace."

## TPS62730DRYT
designator U?
Buck Step Down Regulator with 1.9 to 3.9 V Input and 2.1 V Output, -40 to 85 degC, 6-Pin SON (DRY), Green (RoHS & no Sb/Br); PartNumber: TPS62730DRYT; Manufacturer: Texas Instruments; Duty Cycle(Max)(%): 100; Iout(Max)(A): 0.1; Rating: Catalog; Regulated Outputs(#): 1; SubFamily: Step-Down Regulator; Synchronous Rectification: TRUE; Vin(Max)(V): 3.9; Vin(Min)(V): 1.9; Vout(Max)(V): 2.1; DatasheetVersion: SLVSAC3A; PackageVersion: revF, Dec-2011; PackageReference: DRY6; PackageDescription: 6-Pin Plastic Small Outline No-Lead, 1 x 1.45 x 0.6 mm Body, 0.5 mm Pitch; Supplier 1: Digi-Key; Supplier Part Number 1: 296-28820-2-ND; Supplier 2: Digi-Key; Supplier Part Number 2: 296-28820-1-ND; Supplier 3: Digi-Key; Supplier Part Number 3: 296-28820-6-ND; Supplier 4: Farnell; Supplier Part Number 4: 1961827RL; Supplier 5: Farnell; Supplier Part Number 5: 1961827; Supplier 6: Newark; Supplier Part Number 6: 52T8814; Supplier 7: Mouser; Supplier Part Number 7: 595-TPS62730DRYT; Eco-Plan: Green (RoHS & no Sb/Br); Topology: Buck; Vout(Min)(V): 2.1; Mounting Technology: Surface Mount; ComponentLink1Description: Datasheet; ComponentLink1URL: http://www.ti.com/general/docs/lit/getliterature.tsp?genericPartNumber=TPS62730&fileType=pdf; ComponentLink2Description: URL Link1; ComponentLink2URL: Samples URL:http://www.ti.com/product/tps54611#samples
footprint DRY6 (PSON, 6-Leads, Body 1x1.45mm, Pitch 0.5mm, TI Recommended)
pins: 1 STAT (hiz) "This is the open drain status output with active low level. An internal comparator drives this output. The pin is high impedance with ON/BYP = low. With ON/BYP set to high the device and the internal VOUT comparator becomes (See Datasheet)", 2 SW (power) "This is the switch pin and is connected to the internal MOSFET switches. Connect the inductor to this terminal.", 3 VIN (power) "VIN power supply pin. Connect this pin close to the VIN terminal of the input capacitor. A ceramic capacitor of 2.2uF is required.", 4 GND (power) "GND supply pin. Connect this pin close to the GND terminal of the input and output capacitor.", 5 ON/BYP (in) "This is the mode selection pin of the device. Pulling this pin to low forces the device into ultra low power bypass mode. The output of the DC/DC converter is connected to VIN via an internal bypass switch.Pulling this pin (See Datasheet)", 6 VOUT (in) "Feedback Pin for the internal feedback divider network and regulation loop. The internal bypass switch is connected between this pin and VIN. Connect this pin directly to the output capacitor with short trace."